# Altium schematic symbol library jlcpcb_capacitors_basic.schlib: 134 symbols (part 3 of 3)
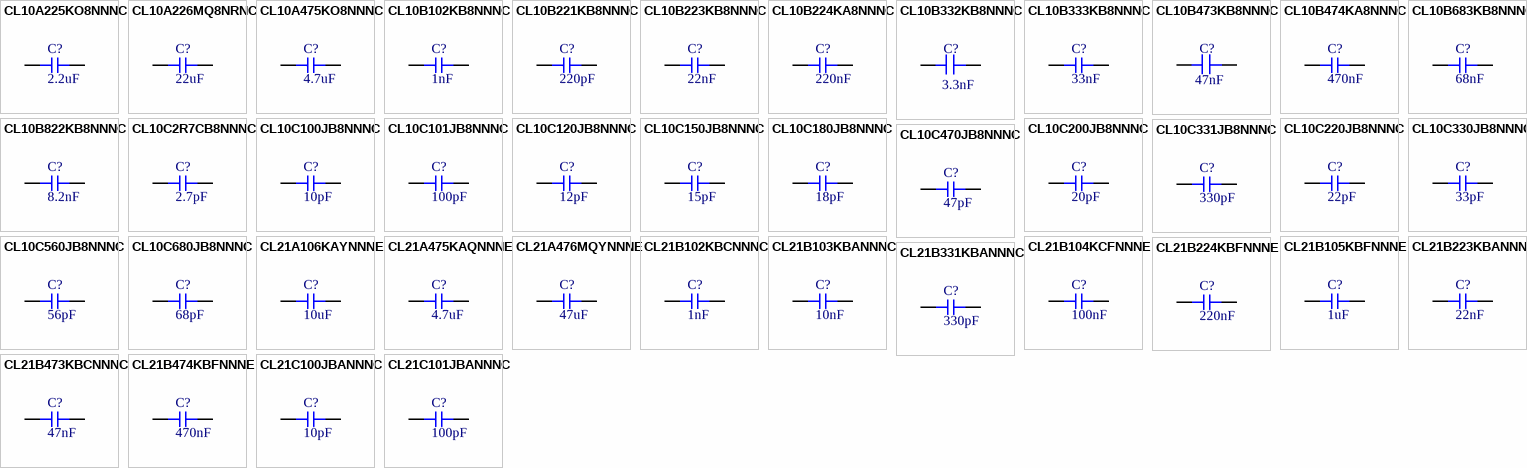
[diagram p5: symbols CL10A225KO8NNNC to CL21C101JBANNNC]

## CL10C180JB8NNNC
designator C?  Capacitance: 18pF  (hidden comment: *)
Capacitor, Ceramic (MLCC), 18pF, ±5%, 50V, C0G, ±5%, SMD 0603; Manufacturer: Samsung Electro-Mechanics; Manufacturer Part Number: CL10C180JB8NNNC; Package Size: 0603; JLCPCB Basic Part: Yes; JLCPCB Part Number: C1647; Supplier 1: LCSC; Category: Capacitors - MLCC; Supplier Part Number 1: C1647; Tolerance: ±5%; Voltage Rating: 50V; Temperature Coefficient: C0G; RoHS: Yes; ComponentLink1Description: Datasheet; ComponentLink1URL: https://datasheet.lcsc.com/lcsc/1810261621_Samsung-Electro-Mechanics-CL10C180JB8NNNC_C1647.pdf; ComponentLink2Description: JLCPCB Part URL; ComponentLink2URL: https://jlcpcb.com/partdetail/C1647; ComponentLink3Description: LCSC Part URL; ComponentLink3URL: https://lcsc.com/product-detail/Multilayer-Ceramic-Capacitors-MLCC---SMD-SMT_Samsung-Electro-Mechanics-Samsung-Electro-Mechanics-CL10C180JB8NNNC_C1647.html
footprint CAP-0603 (0603 (1608M) Capacitor)
pins: 1, 2

## CL10C200JB8NNNC
designator C?  Capacitance: 20pF  (hidden comment: *)
Capacitor, Ceramic (MLCC), 20pF, ±5%, 50V, C0G, ±5%, SMD 0603; Manufacturer: Samsung Electro-Mechanics; Manufacturer Part Number: CL10C200JB8NNNC; Package Size: 0603; JLCPCB Basic Part: Yes; JLCPCB Part Number: C1648; Supplier 1: LCSC; Category: Capacitors - MLCC; Supplier Part Number 1: C1648; Tolerance: ±5%; Voltage Rating: 50V; Temperature Coefficient: C0G; RoHS: Yes; ComponentLink1Description: Datasheet; ComponentLink1URL: https://datasheet.lcsc.com/lcsc/1810261514_Samsung-Electro-Mechanics-CL10C200JB8NNNC_C1648.pdf; ComponentLink2Description: JLCPCB Part URL; ComponentLink2URL: https://jlcpcb.com/partdetail/C1648; ComponentLink3Description: LCSC Part URL; ComponentLink3URL: https://lcsc.com/product-detail/Multilayer-Ceramic-Capacitors-MLCC---SMD-SMT_Samsung-Electro-Mechanics-Samsung-Electro-Mechanics-CL10C200JB8NNNC_C1648.html
footprint CAP-0603 (0603 (1608M) Capacitor)
pins: 1, 2

## CL10C220JB8NNNC
designator C?  Capacitance: 22pF  (hidden comment: *)
Capacitor, Ceramic (MLCC), 22pF, ±5%, 50V, C0G, ±5%, SMD 0603; Manufacturer: Samsung Electro-Mechanics; Manufacturer Part Number: CL10C220JB8NNNC; Package Size: 0603; JLCPCB Basic Part: Yes; JLCPCB Part Number: C1653; Supplier 1: LCSC; Category: Capacitors - MLCC; Supplier Part Number 1: C1653; Tolerance: ±5%; Voltage Rating: 50V; Temperature Coefficient: C0G; RoHS: Yes; ComponentLink1Description: Datasheet; ComponentLink1URL: https://datasheet.lcsc.com/lcsc/1810121815_Samsung-Electro-Mechanics-CL10C220JB8NNNC_C1653.pdf; ComponentLink2Description: JLCPCB Part URL; ComponentLink2URL: https://jlcpcb.com/partdetail/C1653; ComponentLink3Description: LCSC Part URL; ComponentLink3URL: https://lcsc.com/product-detail/Multilayer-Ceramic-Capacitors-MLCC---SMD-SMT_Samsung-Electro-Mechanics-Samsung-Electro-Mechanics-CL10C220JB8NNNC_C1653.html
footprint CAP-0603 (0603 (1608M) Capacitor)
pins: 1, 2

## CL10C330JB8NNNC
designator C?  Capacitance: 33pF  (hidden comment: *)
Capacitor, Ceramic (MLCC), 33pF, ±5%, 50V, C0G, ±5%, SMD 0603; Manufacturer: Samsung Electro-Mechanics; Manufacturer Part Number: CL10C330JB8NNNC; Package Size: 0603; JLCPCB Basic Part: Yes; JLCPCB Part Number: C1663; Supplier 1: LCSC; Category: Capacitors - MLCC; Supplier Part Number 1: C1663; Tolerance: ±5%; Voltage Rating: 50V; Temperature Coefficient: C0G; RoHS: Yes; ComponentLink1Description: Datasheet; ComponentLink1URL: https://datasheet.lcsc.com/lcsc/1811151146_Samsung-Electro-Mechanics-CL10C330JB8NNNC_C1663.pdf; ComponentLink2Description: JLCPCB Part URL; ComponentLink2URL: https://jlcpcb.com/partdetail/C1663; ComponentLink3Description: LCSC Part URL; ComponentLink3URL: https://lcsc.com/product-detail/Multilayer-Ceramic-Capacitors-MLCC---SMD-SMT_Samsung-Electro-Mechanics-Samsung-Electro-Mechanics-CL10C330JB8NNNC_C1663.html
footprint C0603 (Chip Resistor, 2-Leads, Body 1.65x0.95mm, IPC Low Density)
pins: 1, 2

## CL10C331JB8NNNC
designator C?  Capacitance: 330pF  (hidden comment: *)
Capacitor, Ceramic (MLCC), 330pF, ±5%, 50V, C0G, ±5%, SMD 0603; Manufacturer: Samsung Electro-Mechanics; Manufacturer Part Number: CL10C331JB8NNNC; Package Size: 0603; JLCPCB Basic Part: Yes; JLCPCB Part Number: C1664; Supplier 1: LCSC; Category: Capacitors - MLCC; Supplier Part Number 1: C1664; Tolerance: ±5%; Voltage Rating: 50V; Temperature Coefficient: C0G; RoHS: Yes; ComponentLink1Description: Datasheet; ComponentLink1URL: https://datasheet.lcsc.com/lcsc/1810261512_Samsung-Electro-Mechanics-CL10C331JB8NNNC_C1664.pdf; ComponentLink2Description: JLCPCB Part URL; ComponentLink2URL: https://jlcpcb.com/partdetail/C1664; ComponentLink3Description: LCSC Part URL; ComponentLink3URL: https://lcsc.com/product-detail/Multilayer-Ceramic-Capacitors-MLCC---SMD-SMT_Samsung-Electro-Mechanics-Samsung-Electro-Mechanics-CL10C331JB8NNNC_C1664.html
footprint CAP-0603 (0603 (1608M) Capacitor)
pins: 1, 2

## CL10C470JB8NNNC
designator C?  Capacitance: 47pF  (hidden comment: *)
Capacitor, Ceramic (MLCC), 47pF, ±5%, 50V, C0G, ±5%, SMD 0603; Manufacturer: Samsung Electro-Mechanics; Manufacturer Part Number: CL10C470JB8NNNC; Package Size: 0603; JLCPCB Basic Part: Yes; JLCPCB Part Number: C1671; Supplier 1: LCSC; Category: Capacitors - MLCC; Supplier Part Number 1: C1671; Tolerance: ±5%; Voltage Rating: 50V; Temperature Coefficient: C0G; RoHS: Yes; ComponentLink1Description: Datasheet; ComponentLink1URL: https://datasheet.lcsc.com/lcsc/1810261610_Samsung-Electro-Mechanics-CL10C470JB8NNNC_C1671.pdf; ComponentLink2Description: JLCPCB Part URL; ComponentLink2URL: https://jlcpcb.com/partdetail/C1671; ComponentLink3Description: LCSC Part URL; ComponentLink3URL: https://lcsc.com/product-detail/Multilayer-Ceramic-Capacitors-MLCC---SMD-SMT_Samsung-Electro-Mechanics-Samsung-Electro-Mechanics-CL10C470JB8NNNC_C1671.html
footprint CAP-0603 (0603 (1608M) Capacitor)
pins: 1, 2

## CL10C560JB8NNNC
designator C?  Capacitance: 56pF  (hidden comment: *)
Capacitor, Ceramic (MLCC), 56pF, ±5%, 50V, C0G, ±5%, SMD 0603; Manufacturer: Samsung Electro-Mechanics; Manufacturer Part Number: CL10C560JB8NNNC; Package Size: 0603; JLCPCB Basic Part: Yes; JLCPCB Part Number: C39148; Supplier 1: LCSC; Category: Capacitors - MLCC; Supplier Part Number 1: C39148; Tolerance: ±5%; Voltage Rating: 50V; Temperature Coefficient: C0G; RoHS: Yes; ComponentLink1Description: Datasheet; ComponentLink1URL: https://datasheet.lcsc.com/lcsc/1810261515_Samsung-Electro-Mechanics-CL10C560JB8NNNC_C39148.pdf; ComponentLink2Description: JLCPCB Part URL; ComponentLink2URL: https://jlcpcb.com/partdetail/C39148; ComponentLink3Description: LCSC Part URL; ComponentLink3URL: https://lcsc.com/product-detail/Multilayer-Ceramic-Capacitors-MLCC---SMD-SMT_Samsung-Electro-Mechanics-Samsung-Electro-Mechanics-CL10C560JB8NNNC_C39148.html
footprint CAP-0603 (0603 (1608M) Capacitor)
pins: 1, 2

## CL10C680JB8NNNC
designator C?  Capacitance: 68pF  (hidden comment: *)
Capacitor, Ceramic (MLCC), 68pF, ±5%, 50V, C0G, ±5%, SMD 0603; Manufacturer: Samsung Electro-Mechanics; Manufacturer Part Number: CL10C680JB8NNNC; Package Size: 0603; JLCPCB Basic Part: Yes; JLCPCB Part Number: C28262; Supplier 1: LCSC; Category: Capacitors - MLCC; Supplier Part Number 1: C28262; Tolerance: ±5%; Voltage Rating: 50V; Temperature Coefficient: C0G; RoHS: Yes; ComponentLink1Description: Datasheet; ComponentLink1URL: https://datasheet.lcsc.com/lcsc/1810261521_Samsung-Electro-Mechanics-CL10C680JB8NNNC_C28262.pdf; ComponentLink2Description: JLCPCB Part URL; ComponentLink2URL: https://jlcpcb.com/partdetail/C28262; ComponentLink3Description: LCSC Part URL; ComponentLink3URL: https://lcsc.com/product-detail/Multilayer-Ceramic-Capacitors-MLCC---SMD-SMT_Samsung-Electro-Mechanics-Samsung-Electro-Mechanics-CL10C680JB8NNNC_C28262.html
footprint CAP-0603 (0603 (1608M) Capacitor)
pins: 1, 2

## CL21A106KAYNNNE
designator C?  Capacitance: 10uF  (hidden comment: *)
Capacitor, Ceramic (MLCC), 10uF, ±10%, 25V, X5R, ±10%, SMD 0805; Manufacturer: Samsung Electro-Mechanics; Manufacturer Part Number: CL21A106KAYNNNE; Package Size: 0805; JLCPCB Basic Part: Yes; JLCPCB Part Number: C15850; Supplier 1: LCSC; Category: Capacitors - MLCC; Supplier Part Number 1: C15850; Tolerance: ±10%; Voltage Rating: 25V; Temperature Coefficient: X5R; RoHS: Yes; ComponentLink1Description: Datasheet; ComponentLink1URL: https://datasheet.lcsc.com/lcsc/1811121310_Samsung-Electro-Mechanics-CL21A106KAYNNNE_C15850.pdf; ComponentLink2Description: JLCPCB Part URL; ComponentLink2URL: https://jlcpcb.com/partdetail/C15850; ComponentLink3Description: LCSC Part URL; ComponentLink3URL: https://lcsc.com/product-detail/Multilayer-Ceramic-Capacitors-MLCC---SMD-SMT_Samsung-Electro-Mechanics-Samsung-Electro-Mechanics-CL21A106KAYNNNE_C15850.html
footprint CAP-0805 (0805 (2012M) Capacitor)
pins: 1, 2

## CL21A475KAQNNNE
designator C?  Capacitance: 4.7uF  (hidden comment: *)
Capacitor, Ceramic (MLCC), 4.7uF, ±10%, 25V, X5R, ±10%, SMD 0805; Manufacturer: Samsung Electro-Mechanics; Manufacturer Part Number: CL21A475KAQNNNE; Package Size: 0805; JLCPCB Basic Part: Yes; JLCPCB Part Number: C1779; Supplier 1: LCSC; Category: Capacitors - MLCC; Supplier Part Number 1: C1779; Tolerance: ±10%; Voltage Rating: 25V; Temperature Coefficient: X5R; RoHS: Yes; ComponentLink1Description: Datasheet; ComponentLink1URL: https://datasheet.lcsc.com/lcsc/1810261822_Samsung-Electro-Mechanics-CL21A475KAQNNNE_C1779.pdf; ComponentLink2Description: JLCPCB Part URL; ComponentLink2URL: https://jlcpcb.com/partdetail/C1779; ComponentLink3Description: LCSC Part URL; ComponentLink3URL: https://lcsc.com/product-detail/Multilayer-Ceramic-Capacitors-MLCC---SMD-SMT_Samsung-Electro-Mechanics-Samsung-Electro-Mechanics-CL21A475KAQNNNE_C1779.html
footprint CAP-0805 (0805 (2012M) Capacitor)
pins: 1, 2

## CL21A476MQYNNNE
designator C?  Capacitance: 47uF  (hidden comment: *)
Capacitor, Ceramic (MLCC), 47uF, ±20%, 6.3V, X5R, ±20%, SMD 0805; Manufacturer: Samsung Electro-Mechanics; Manufacturer Part Number: CL21A476MQYNNNE; Package Size: 0805; JLCPCB Basic Part: Yes; JLCPCB Part Number: C16780; Supplier 1: LCSC; Category: Capacitors - MLCC; Supplier Part Number 1: C16780; Tolerance: ±20%; Voltage Rating: 6.3V; Temperature Coefficient: X5R; RoHS: Yes; ComponentLink1Description: Datasheet; ComponentLink1URL: https://datasheet.lcsc.com/lcsc/1811091612_Samsung-Electro-Mechanics-CL21A476MQYNNNE_C16780.pdf; ComponentLink2Description: JLCPCB Part URL; ComponentLink2URL: https://jlcpcb.com/partdetail/C16780; ComponentLink3Description: LCSC Part URL; ComponentLink3URL: https://lcsc.com/product-detail/Multilayer-Ceramic-Capacitors-MLCC---SMD-SMT_Samsung-Electro-Mechanics-Samsung-Electro-Mechanics-CL21A476MQYNNNE_C16780.html
footprint CAP-0805 (0805 (2012M) Capacitor)
pins: 1, 2

## CL21B102KBCNNNC
designator C?  Capacitance: 1nF  (hidden comment: *)
Capacitor, Ceramic (MLCC), 1nF, ±10%, 50V, X7R, ±10%, SMD 0805; Manufacturer: Samsung Electro-Mechanics; Manufacturer Part Number: CL21B102KBCNNNC; Package Size: 0805; JLCPCB Basic Part: Yes; JLCPCB Part Number: C46653; Supplier 1: LCSC; Category: Capacitors - MLCC; Supplier Part Number 1: C46653; Tolerance: ±10%; Voltage Rating: 50V; Temperature Coefficient: X7R; RoHS: Yes; ComponentLink1Description: Datasheet; ComponentLink1URL: https://datasheet.lcsc.com/lcsc/1808311543_Samsung-Electro-Mechanics-CL21B102KBCNNNC_C46653.pdf; ComponentLink2Description: JLCPCB Part URL; ComponentLink2URL: https://jlcpcb.com/partdetail/C46653; ComponentLink3Description: LCSC Part URL; ComponentLink3URL: https://lcsc.com/product-detail/Multilayer-Ceramic-Capacitors-MLCC---SMD-SMT_Samsung-Electro-Mechanics-Samsung-Electro-Mechanics-CL21B102KBCNNNC_C46653.html
footprint CAP-0805 (0805 (2012M) Capacitor)
pins: 1, 2

## CL21B103KBANNNC
designator C?  Capacitance: 10nF  (hidden comment: *)
Capacitor, Ceramic (MLCC), 10nF, ±10%, 50V, X7R, ±10%, SMD 0805; Manufacturer: Samsung Electro-Mechanics; Manufacturer Part Number: CL21B103KBANNNC; Package Size: 0805; JLCPCB Basic Part: Yes; JLCPCB Part Number: C1710; Supplier 1: LCSC; Category: Capacitors - MLCC; Supplier Part Number 1: C1710; Tolerance: ±10%; Voltage Rating: 50V; Temperature Coefficient: X7R; RoHS: Yes; ComponentLink1Description: Datasheet; ComponentLink1URL: https://datasheet.lcsc.com/lcsc/1811151136_Samsung-Electro-Mechanics-CL21B103KBANNNC_C1710.pdf; ComponentLink2Description: JLCPCB Part URL; ComponentLink2URL: https://jlcpcb.com/partdetail/C1710; ComponentLink3Description: LCSC Part URL; ComponentLink3URL: https://lcsc.com/product-detail/Multilayer-Ceramic-Capacitors-MLCC---SMD-SMT_Samsung-Electro-Mechanics-Samsung-Electro-Mechanics-CL21B103KBANNNC_C1710.html
footprint CAP-0805 (0805 (2012M) Capacitor)
pins: 1, 2

## CL21B104KCFNNNE
designator C?  Capacitance: 100nF  (hidden comment: *)
Capacitor, Ceramic (MLCC), 100nF, ±10%, 100V, X7R, ±10%, SMD 0805; Manufacturer: Samsung Electro-Mechanics; Manufacturer Part Number: CL21B104KCFNNNE; Package Size: 0805; JLCPCB Basic Part: Yes; JLCPCB Part Number: C28233; Supplier 1: LCSC; Category: Capacitors - MLCC; Supplier Part Number 1: C28233; Tolerance: ±10%; Voltage Rating: 100V; Temperature Coefficient: X7R; RoHS: Yes; ComponentLink1Description: Datasheet; ComponentLink1URL: https://datasheet.lcsc.com/lcsc/1810191216_Samsung-Electro-Mechanics-CL21B104KCFNNNE_C28233.pdf; ComponentLink2Description: JLCPCB Part URL; ComponentLink2URL: https://jlcpcb.com/partdetail/C28233; ComponentLink3Description: LCSC Part URL; ComponentLink3URL: https://lcsc.com/product-detail/Multilayer-Ceramic-Capacitors-MLCC---SMD-SMT_Samsung-Electro-Mechanics-Samsung-Electro-Mechanics-CL21B104KCFNNNE_C28233.html
footprint CAP-0805 (0805 (2012M) Capacitor)
pins: 1, 2

## CL21B105KBFNNNE
designator C?  Capacitance: 1uF  (hidden comment: *)
Capacitor, Ceramic (MLCC), 1uF, ±10%, 50V, X7R, ±10%, SMD 0805; Manufacturer: Samsung Electro-Mechanics; Manufacturer Part Number: CL21B105KBFNNNE; Package Size: 0805; JLCPCB Basic Part: Yes; JLCPCB Part Number: C28323; Supplier 1: LCSC; Category: Capacitors - MLCC; Supplier Part Number 1: C28323; Tolerance: ±10%; Voltage Rating: 50V; Temperature Coefficient: X7R; RoHS: Yes; ComponentLink1Description: Datasheet; ComponentLink1URL: https://datasheet.lcsc.com/lcsc/1810191216_Samsung-Electro-Mechanics-CL21B105KBFNNNE_C28323.pdf; ComponentLink2Description: JLCPCB Part URL; ComponentLink2URL: https://jlcpcb.com/partdetail/C28323; ComponentLink3Description: LCSC Part URL; ComponentLink3URL: https://lcsc.com/product-detail/Multilayer-Ceramic-Capacitors-MLCC---SMD-SMT_Samsung-Electro-Mechanics-Samsung-Electro-Mechanics-CL21B105KBFNNNE_C28323.html
footprint CAP-0805 (0805 (2012M) Capacitor)
pins: 1, 2

## CL21B223KBANNNC
designator C?  Capacitance: 22nF  (hidden comment: *)
Capacitor, Ceramic (MLCC), 22nF, ±10%, 50V, X7R, ±10%, SMD 0805; Manufacturer: Samsung Electro-Mechanics; Manufacturer Part Number: CL21B223KBANNNC; Package Size: 0805; JLCPCB Basic Part: Yes; JLCPCB Part Number: C1729; Supplier 1: LCSC; Category: Capacitors - MLCC; Supplier Part Number 1: C1729; Tolerance: ±10%; Voltage Rating: 50V; Temperature Coefficient: X7R; RoHS: Yes; ComponentLink1Description: Datasheet; ComponentLink1URL: https://datasheet.lcsc.com/lcsc/1810191222_Samsung-Electro-Mechanics-CL21B223KBANNNC_C1729.pdf; ComponentLink2Description: JLCPCB Part URL; ComponentLink2URL: https://jlcpcb.com/partdetail/C1729; ComponentLink3Description: LCSC Part URL; ComponentLink3URL: https://lcsc.com/product-detail/Multilayer-Ceramic-Capacitors-MLCC---SMD-SMT_Samsung-Electro-Mechanics-Samsung-Electro-Mechanics-CL21B223KBANNNC_C1729.html
footprint CAP-0805 (0805 (2012M) Capacitor)
pins: 1, 2

## CL21B224KBFNNNE
designator C?  Capacitance: 220nF  (hidden comment: *)
Capacitor, Ceramic (MLCC), 220nF, ±10%, 50V, X7R, ±10%, SMD 0805; Manufacturer: Samsung Electro-Mechanics; Manufacturer Part Number: CL21B224KBFNNNE; Package Size: 0805; JLCPCB Basic Part: Yes; JLCPCB Part Number: C5378; Supplier 1: LCSC; Category: Capacitors - MLCC; Supplier Part Number 1: C5378; Tolerance: ±10%; Voltage Rating: 50V; Temperature Coefficient: X7R; RoHS: Yes; ComponentLink1Description: Datasheet; ComponentLink1URL: https://datasheet.lcsc.com/lcsc/1810191222_Samsung-Electro-Mechanics-CL21B224KBFNNNE_C5378.pdf; ComponentLink2Description: JLCPCB Part URL; ComponentLink2URL: https://jlcpcb.com/partdetail/C5378; ComponentLink3Description: LCSC Part URL; ComponentLink3URL: https://lcsc.com/product-detail/Multilayer-Ceramic-Capacitors-MLCC---SMD-SMT_Samsung-Electro-Mechanics-Samsung-Electro-Mechanics-CL21B224KBFNNNE_C5378.html
footprint CAP-0805 (0805 (2012M) Capacitor)
pins: 1, 2

## CL21B331KBANNNC
designator C?  Capacitance: 330pF  (hidden comment: *)
Capacitor, Ceramic (MLCC), 330pF, ±10%, 50V, X7R, ±10%, SMD 0805; Manufacturer: Samsung Electro-Mechanics; Manufacturer Part Number: CL21B331KBANNNC; Package Size: 0805; JLCPCB Basic Part: Yes; JLCPCB Part Number: C51207; Supplier 1: LCSC; Category: Capacitors - MLCC; Supplier Part Number 1: C51207; Tolerance: ±10%; Voltage Rating: 50V; Temperature Coefficient: X7R; RoHS: Yes; ComponentLink1Description: Datasheet; ComponentLink1URL: https://datasheet.lcsc.com/lcsc/1810191220_Samsung-Electro-Mechanics-CL21B331KBANNNC_C51207.pdf; ComponentLink2Description: JLCPCB Part URL; ComponentLink2URL: https://jlcpcb.com/partdetail/C51207; ComponentLink3Description: LCSC Part URL; ComponentLink3URL: https://lcsc.com/product-detail/Multilayer-Ceramic-Capacitors-MLCC---SMD-SMT_Samsung-Electro-Mechanics-Samsung-Electro-Mechanics-CL21B331KBANNNC_C51207.html
footprint CAP-0805 (0805 (2012M) Capacitor)
pins: 1, 2

## CL21B473KBCNNNC
designator C?  Capacitance: 47nF  (hidden comment: *)
Capacitor, Ceramic (MLCC), 47nF, ±10%, 50V, X7R, ±10%, SMD 0805; Manufacturer: Samsung Electro-Mechanics; Manufacturer Part Number: CL21B473KBCNNNC; Package Size: 0805; JLCPCB Basic Part: Yes; JLCPCB Part Number: C53134; Supplier 1: LCSC; Category: Capacitors - MLCC; Supplier Part Number 1: C53134; Tolerance: ±10%; Voltage Rating: 50V; Temperature Coefficient: X7R; RoHS: Yes; ComponentLink1Description: Datasheet; ComponentLink1URL: https://datasheet.lcsc.com/lcsc/1811091614_Samsung-Electro-Mechanics-CL21B473KBCNNNC_C53134.pdf; ComponentLink2Description: JLCPCB Part URL; ComponentLink2URL: https://jlcpcb.com/partdetail/C53134; ComponentLink3Description: LCSC Part URL; ComponentLink3URL: https://lcsc.com/product-detail/Multilayer-Ceramic-Capacitors-MLCC---SMD-SMT_Samsung-Electro-Mechanics-Samsung-Electro-Mechanics-CL21B473KBCNNNC_C53134.html
footprint CAP-0805 (0805 (2012M) Capacitor)
pins: 1, 2

## CL21B474KBFNNNE
designator C?  Capacitance: 470nF  (hidden comment: *)
Capacitor, Ceramic (MLCC), 470nF, ±10%, 50V, X7R, ±10%, SMD 0805; Manufacturer: Samsung Electro-Mechanics; Manufacturer Part Number: CL21B474KBFNNNE; Package Size: 0805; JLCPCB Basic Part: Yes; JLCPCB Part Number: C13967; Supplier 1: LCSC; Category: Capacitors - MLCC; Supplier Part Number 1: C13967; Tolerance: ±10%; Voltage Rating: 50V; Temperature Coefficient: X7R; RoHS: Yes; ComponentLink1Description: Datasheet; ComponentLink1URL: https://datasheet.lcsc.com/lcsc/1810251812_Samsung-Electro-Mechanics-CL21B474KBFNNNE_C13967.pdf; ComponentLink2Description: JLCPCB Part URL; ComponentLink2URL: https://jlcpcb.com/partdetail/C13967; ComponentLink3Description: LCSC Part URL; ComponentLink3URL: https://lcsc.com/product-detail/Multilayer-Ceramic-Capacitors-MLCC---SMD-SMT_Samsung-Electro-Mechanics-Samsung-Electro-Mechanics-CL21B474KBFNNNE_C13967.html
footprint CAP-0805 (0805 (2012M) Capacitor)
pins: 1, 2

## CL21C100JBANNNC
designator C?  Capacitance: 10pF  (hidden comment: *)
Capacitor, Ceramic (MLCC), 10pF, ±5%, 50V, C0G, ±5%, SMD 0805; Manufacturer: Samsung Electro-Mechanics; Manufacturer Part Number: CL21C100JBANNNC; Package Size: 0805; JLCPCB Basic Part: Yes; JLCPCB Part Number: C1785; Supplier 1: LCSC; Category: Capacitors - MLCC; Supplier Part Number 1: C1785; Tolerance: ±5%; Voltage Rating: 50V; Temperature Coefficient: C0G; RoHS: Yes; ComponentLink1Description: Datasheet; ComponentLink1URL: https://datasheet.lcsc.com/lcsc/1810191223_Samsung-Electro-Mechanics-CL21C100JBANNNC_C1785.pdf; ComponentLink2Description: JLCPCB Part URL; ComponentLink2URL: https://jlcpcb.com/partdetail/C1785; ComponentLink3Description: LCSC Part URL; ComponentLink3URL: https://lcsc.com/product-detail/Multilayer-Ceramic-Capacitors-MLCC---SMD-SMT_Samsung-Electro-Mechanics-Samsung-Electro-Mechanics-CL21C100JBANNNC_C1785.html
footprint CAP-0805 (0805 (2012M) Capacitor)
pins: 1, 2

## CL21C101JBANNNC
designator C?  Capacitance: 100pF  (hidden comment: *)
Capacitor, Ceramic (MLCC), 100pF, ±5%, 50V, C0G, ±5%, SMD 0805; Manufacturer: Samsung Electro-Mechanics; Manufacturer Part Number: CL21C101JBANNNC; Package Size: 0805; JLCPCB Basic Part: Yes; JLCPCB Part Number: C1790; Supplier 1: LCSC; Category: Capacitors - MLCC; Supplier Part Number 1: C1790; Tolerance: ±5%; Voltage Rating: 50V; Temperature Coefficient: C0G; RoHS: Yes; ComponentLink1Description: Datasheet; ComponentLink1URL: https://datasheet.lcsc.com/lcsc/1810241824_Samsung-Electro-Mechanics-CL21C101JBANNNC_C1790.pdf; ComponentLink2Description: JLCPCB Part URL; ComponentLink2URL: https://jlcpcb.com/partdetail/C1790; ComponentLink3Description: LCSC Part URL; ComponentLink3URL: https://lcsc.com/product-detail/Multilayer-Ceramic-Capacitors-MLCC---SMD-SMT_Samsung-Electro-Mechanics-Samsung-Electro-Mechanics-CL21C101JBANNNC_C1790.html
footprint CAP-0805 (0805 (2012M) Capacitor)
pins: 1, 2

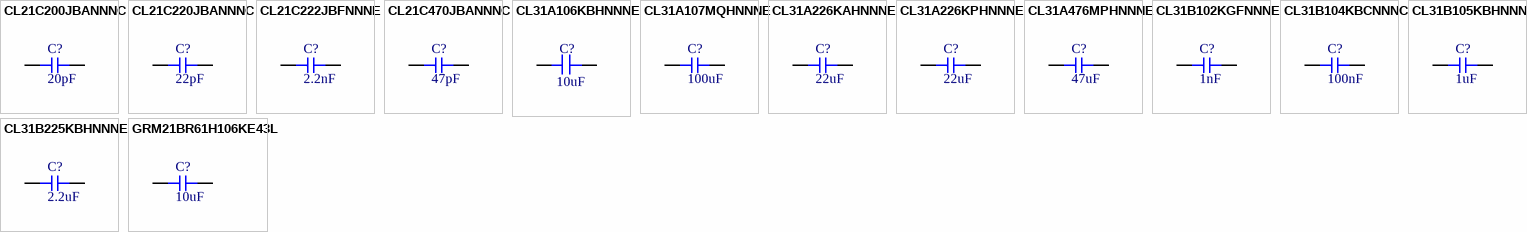
[diagram p3: symbols CL21C200JBANNNC to GRM21BR61H106KE43L]

## CL21C200JBANNNC
designator C?  Capacitance: 20pF  (hidden comment: *)
Capacitor, Ceramic (MLCC), 20pF, ±5%, 50V, C0G, ±5%, SMD 0805; Manufacturer: Samsung Electro-Mechanics; Manufacturer Part Number: CL21C200JBANNNC; Package Size: 0805; JLCPCB Basic Part: Yes; JLCPCB Part Number: C1798; Supplier 1: LCSC; Category: Capacitors - MLCC; Supplier Part Number 1: C1798; Tolerance: ±5%; Voltage Rating: 50V; Temperature Coefficient: C0G; RoHS: Yes; ComponentLink1Description: Datasheet; ComponentLink1URL: https://datasheet.lcsc.com/lcsc/1810191220_Samsung-Electro-Mechanics-CL21C200JBANNNC_C1798.pdf; ComponentLink2Description: JLCPCB Part URL; ComponentLink2URL: https://jlcpcb.com/partdetail/C1798; ComponentLink3Description: LCSC Part URL; ComponentLink3URL: https://lcsc.com/product-detail/Multilayer-Ceramic-Capacitors-MLCC---SMD-SMT_Samsung-Electro-Mechanics-Samsung-Electro-Mechanics-CL21C200JBANNNC_C1798.html
footprint CAP-0805 (0805 (2012M) Capacitor)
pins: 1, 2

## CL21C220JBANNNC
designator C?  Capacitance: 22pF  (hidden comment: *)
Capacitor, Ceramic (MLCC), 22pF, ±5%, 50V, C0G, ±5%, SMD 0805; Manufacturer: Samsung Electro-Mechanics; Manufacturer Part Number: CL21C220JBANNNC; Package Size: 0805; JLCPCB Basic Part: Yes; JLCPCB Part Number: C1804; Supplier 1: LCSC; Category: Capacitors - MLCC; Supplier Part Number 1: C1804; Tolerance: ±5%; Voltage Rating: 50V; Temperature Coefficient: C0G; RoHS: Yes; ComponentLink1Description: Datasheet; ComponentLink1URL: https://datasheet.lcsc.com/lcsc/1810271113_Samsung-Electro-Mechanics-CL21C220JBANNNC_C1804.pdf; ComponentLink2Description: JLCPCB Part URL; ComponentLink2URL: https://jlcpcb.com/partdetail/C1804; ComponentLink3Description: LCSC Part URL; ComponentLink3URL: https://lcsc.com/product-detail/Multilayer-Ceramic-Capacitors-MLCC---SMD-SMT_Samsung-Electro-Mechanics-Samsung-Electro-Mechanics-CL21C220JBANNNC_C1804.html
footprint CAP-0805 (0805 (2012M) Capacitor)
pins: 1, 2

## CL21C222JBFNNNE
designator C?  Capacitance: 2.2nF  (hidden comment: *)
Capacitor, Ceramic (MLCC), 2.2nF, ±5%, 50V, C0G, ±5%, SMD 0805; Manufacturer: Samsung Electro-Mechanics; Manufacturer Part Number: CL21C222JBFNNNE; Package Size: 0805; JLCPCB Basic Part: Yes; JLCPCB Part Number: C28260; Supplier 1: LCSC; Category: Capacitors - MLCC; Supplier Part Number 1: C28260; Tolerance: ±5%; Voltage Rating: 50V; Temperature Coefficient: C0G; RoHS: Yes; ComponentLink1Description: Datasheet; ComponentLink1URL: https://datasheet.lcsc.com/lcsc/1810191215_Samsung-Electro-Mechanics-CL21C222JBFNNNE_C28260.pdf; ComponentLink2Description: JLCPCB Part URL; ComponentLink2URL: https://jlcpcb.com/partdetail/C28260; ComponentLink3Description: LCSC Part URL; ComponentLink3URL: https://lcsc.com/product-detail/Multilayer-Ceramic-Capacitors-MLCC---SMD-SMT_Samsung-Electro-Mechanics-Samsung-Electro-Mechanics-CL21C222JBFNNNE_C28260.html
footprint CAP-0805 (0805 (2012M) Capacitor)
pins: 1, 2

## CL21C470JBANNNC
designator C?  Capacitance: 47pF  (hidden comment: *)
Capacitor, Ceramic (MLCC), 47pF, ±5%, 50V, C0G, ±5%, SMD 0805; Manufacturer: Samsung Electro-Mechanics; Manufacturer Part Number: CL21C470JBANNNC; Package Size: 0805; JLCPCB Basic Part: Yes; JLCPCB Part Number: C14857; Supplier 1: LCSC; Category: Capacitors - MLCC; Supplier Part Number 1: C14857; Tolerance: ±5%; Voltage Rating: 50V; Temperature Coefficient: C0G; RoHS: Yes; ComponentLink1Description: Datasheet; ComponentLink1URL: https://datasheet.lcsc.com/lcsc/1810191215_Samsung-Electro-Mechanics-CL21C470JBANNNC_C14857.pdf; ComponentLink2Description: JLCPCB Part URL; ComponentLink2URL: https://jlcpcb.com/partdetail/C14857; ComponentLink3Description: LCSC Part URL; ComponentLink3URL: https://lcsc.com/product-detail/Multilayer-Ceramic-Capacitors-MLCC---SMD-SMT_Samsung-Electro-Mechanics-Samsung-Electro-Mechanics-CL21C470JBANNNC_C14857.html
footprint CAP-0805 (0805 (2012M) Capacitor)
pins: 1, 2

## CL31A106KBHNNNE
designator C?  Capacitance: 10uF  (hidden comment: *)
Capacitor, Ceramic (MLCC), 10uF, ±10%, 50V, X5R, ±10%, SMD 1206; Manufacturer: Samsung Electro-Mechanics; Manufacturer Part Number: CL31A106KBHNNNE; Package Size: 1206; JLCPCB Basic Part: Yes; JLCPCB Part Number: C13585; Supplier 1: LCSC; Category: Capacitors - MLCC; Supplier Part Number 1: C13585; Tolerance: ±10%; Voltage Rating: 50V; Temperature Coefficient: X5R; RoHS: Yes; ComponentLink1Description: Datasheet; ComponentLink1URL: https://datasheet.lcsc.com/lcsc/1810221112_Samsung-Electro-Mechanics-CL31A106KBHNNNE_C13585.pdf; ComponentLink2Description: JLCPCB Part URL; ComponentLink2URL: https://jlcpcb.com/partdetail/C13585; ComponentLink3Description: LCSC Part URL; ComponentLink3URL: https://lcsc.com/product-detail/Multilayer-Ceramic-Capacitors-MLCC---SMD-SMT_Samsung-Electro-Mechanics-Samsung-Electro-Mechanics-CL31A106KBHNNNE_C13585.html
footprint C1206
pins: 1, 2

## CL31A107MQHNNNE
designator C?  Capacitance: 100uF  (hidden comment: *)
Capacitor, Ceramic (MLCC), 100uF, ±20%, 6.3V, X5R, ±20%, SMD 1206; Manufacturer: Samsung Electro-Mechanics; Manufacturer Part Number: CL31A107MQHNNNE; Package Size: 1206; JLCPCB Basic Part: Yes; JLCPCB Part Number: C15008; Supplier 1: LCSC; Category: Capacitors - MLCC; Supplier Part Number 1: C15008; Tolerance: ±20%; Voltage Rating: 6.3V; Temperature Coefficient: X5R; RoHS: Yes; ComponentLink1Description: Datasheet; ComponentLink1URL: https://datasheet.lcsc.com/lcsc/1810301816_Samsung-Electro-Mechanics-CL31A107MQHNNNE_C15008.pdf; ComponentLink2Description: JLCPCB Part URL; ComponentLink2URL: https://jlcpcb.com/partdetail/C15008; ComponentLink3Description: LCSC Part URL; ComponentLink3URL: https://lcsc.com/product-detail/Multilayer-Ceramic-Capacitors-MLCC---SMD-SMT_Samsung-Electro-Mechanics-Samsung-Electro-Mechanics-CL31A107MQHNNNE_C15008.html
footprint CAP-1206 (1206 (3216M) Capacitor)
pins: 1, 2

## CL31A226KAHNNNE
designator C?  Capacitance: 22uF  (hidden comment: *)
Capacitor, Ceramic (MLCC), 22uF, ±10%, 25V, X5R, ±10%, SMD 1206; Manufacturer: Samsung Electro-Mechanics; Manufacturer Part Number: CL31A226KAHNNNE; Package Size: 1206; JLCPCB Basic Part: Yes; JLCPCB Part Number: C12891; Supplier 1: LCSC; Category: Capacitors - MLCC; Supplier Part Number 1: C12891; Tolerance: ±10%; Voltage Rating: 25V; Temperature Coefficient: X5R; RoHS: Yes; ComponentLink1Description: Datasheet; ComponentLink1URL: https://datasheet.lcsc.com/lcsc/1811031514_Samsung-Electro-Mechanics-CL31A226KAHNNNE_C12891.pdf; ComponentLink2Description: JLCPCB Part URL; ComponentLink2URL: https://jlcpcb.com/partdetail/C12891; ComponentLink3Description: LCSC Part URL; ComponentLink3URL: https://lcsc.com/product-detail/Multilayer-Ceramic-Capacitors-MLCC---SMD-SMT_Samsung-Electro-Mechanics-Samsung-Electro-Mechanics-CL31A226KAHNNNE_C12891.html
footprint C1206
pins: 1, 2

## CL31A226KPHNNNE
designator C?  Capacitance: 22uF  (hidden comment: *)
Capacitor, Ceramic (MLCC), 22uF, ±10%, 10V, X5R, ±10%, SMD 1206; Manufacturer: Samsung Electro-Mechanics; Manufacturer Part Number: CL31A226KPHNNNE; Package Size: 1206; JLCPCB Basic Part: Yes; JLCPCB Part Number: C5672; Supplier 1: LCSC; Category: Capacitors - MLCC; Supplier Part Number 1: C5672; Tolerance: ±10%; Voltage Rating: 10V; Temperature Coefficient: X5R; RoHS: Yes; ComponentLink1Description: Datasheet; ComponentLink1URL: https://datasheet.lcsc.com/lcsc/1810221121_Samsung-Electro-Mechanics-CL31A226KPHNNNE_C5672.pdf; ComponentLink2Description: JLCPCB Part URL; ComponentLink2URL: https://jlcpcb.com/partdetail/C5672; ComponentLink3Description: LCSC Part URL; ComponentLink3URL: https://lcsc.com/product-detail/Multilayer-Ceramic-Capacitors-MLCC---SMD-SMT_Samsung-Electro-Mechanics-Samsung-Electro-Mechanics-CL31A226KPHNNNE_C5672.html
footprint CAP-1206 (1206 (3216M) Capacitor)
pins: 1, 2

## CL31A476MPHNNNE
designator C?  Capacitance: 47uF  (hidden comment: *)
Capacitor, Ceramic (MLCC), 47uF, ±20%, 10V, X5R, ±20%, SMD 1206; Manufacturer: Samsung Electro-Mechanics; Manufacturer Part Number: CL31A476MPHNNNE; Package Size: 1206; JLCPCB Basic Part: Yes; JLCPCB Part Number: C96123; Supplier 1: LCSC; Category: Capacitors - MLCC; Supplier Part Number 1: C96123; Tolerance: ±20%; Voltage Rating: 10V; Temperature Coefficient: X5R; RoHS: Yes; ComponentLink1Description: Datasheet; ComponentLink1URL: https://datasheet.lcsc.com/lcsc/1810221121_Samsung-Electro-Mechanics-CL31A476MPHNNNE_C96123.pdf; ComponentLink2Description: JLCPCB Part URL; ComponentLink2URL: https://jlcpcb.com/partdetail/C96123; ComponentLink3Description: LCSC Part URL; ComponentLink3URL: https://lcsc.com/product-detail/Multilayer-Ceramic-Capacitors-MLCC---SMD-SMT_Samsung-Electro-Mechanics-Samsung-Electro-Mechanics-CL31A476MPHNNNE_C96123.html
footprint CAP-1206 (1206 (3216M) Capacitor)
pins: 1, 2

## CL31B102KGFNNNE
designator C?  Capacitance: 1nF  (hidden comment: *)
Capacitor, Ceramic (MLCC), 1nF, ±10%, 500V, X7R, ±10%, SMD 1206; Manufacturer: Samsung Electro-Mechanics; Manufacturer Part Number: CL31B102KGFNNNE; Package Size: 1206; JLCPCB Basic Part: Yes; JLCPCB Part Number: C35216; Supplier 1: LCSC; Category: Capacitors - MLCC; Supplier Part Number 1: C35216; Tolerance: ±10%; Voltage Rating: 500V; Temperature Coefficient: X7R; RoHS: Yes; ComponentLink1Description: Datasheet; ComponentLink1URL: https://datasheet.lcsc.com/lcsc/1810221111_Samsung-Electro-Mechanics-CL31B102KGFNNNE_C35216.pdf; ComponentLink2Description: JLCPCB Part URL; ComponentLink2URL: https://jlcpcb.com/partdetail/C35216; ComponentLink3Description: LCSC Part URL; ComponentLink3URL: https://lcsc.com/product-detail/Multilayer-Ceramic-Capacitors-MLCC---SMD-SMT_Samsung-Electro-Mechanics-Samsung-Electro-Mechanics-CL31B102KGFNNNE_C35216.html
footprint CAP-1206 (1206 (3216M) Capacitor)
pins: 1, 2

## CL31B104KBCNNNC
designator C?  Capacitance: 100nF  (hidden comment: *)
Capacitor, Ceramic (MLCC), 100nF, ±10%, 50V, X7R, ±10%, SMD 1206; Manufacturer: Samsung Electro-Mechanics; Manufacturer Part Number: CL31B104KBCNNNC; Package Size: 1206; JLCPCB Basic Part: Yes; JLCPCB Part Number: C24497; Supplier 1: LCSC; Category: Capacitors - MLCC; Supplier Part Number 1: C24497; Tolerance: ±10%; Voltage Rating: 50V; Temperature Coefficient: X7R; RoHS: Yes; ComponentLink1Description: Datasheet; ComponentLink1URL: https://datasheet.lcsc.com/lcsc/1810221109_Samsung-Electro-Mechanics-CL31B104KBCNNNC_C24497.pdf; ComponentLink2Description: JLCPCB Part URL; ComponentLink2URL: https://jlcpcb.com/partdetail/C24497; ComponentLink3Description: LCSC Part URL; ComponentLink3URL: https://lcsc.com/product-detail/Multilayer-Ceramic-Capacitors-MLCC---SMD-SMT_Samsung-Electro-Mechanics-Samsung-Electro-Mechanics-CL31B104KBCNNNC_C24497.html
footprint C1206
pins: 1, 2

## CL31B105KBHNNNE
designator C?  Capacitance: 1uF  (hidden comment: *)
Capacitor, Ceramic (MLCC), 1uF, ±10%, 50V, X7R, ±10%, SMD 1206; Manufacturer: Samsung Electro-Mechanics; Manufacturer Part Number: CL31B105KBHNNNE; Package Size: 1206; JLCPCB Basic Part: Yes; JLCPCB Part Number: C1848; Supplier 1: LCSC; Category: Capacitors - MLCC; Supplier Part Number 1: C1848; Tolerance: ±10%; Voltage Rating: 50V; Temperature Coefficient: X7R; RoHS: Yes; ComponentLink1Description: Datasheet; ComponentLink1URL: https://datasheet.lcsc.com/lcsc/1810271109_Samsung-Electro-Mechanics-CL31B105KBHNNNE_C1848.pdf; ComponentLink2Description: JLCPCB Part URL; ComponentLink2URL: https://jlcpcb.com/partdetail/C1848; ComponentLink3Description: LCSC Part URL; ComponentLink3URL: https://lcsc.com/product-detail/Multilayer-Ceramic-Capacitors-MLCC---SMD-SMT_Samsung-Electro-Mechanics-Samsung-Electro-Mechanics-CL31B105KBHNNNE_C1848.html
footprint CAP-1206 (1206 (3216M) Capacitor)
pins: 1, 2

## CL31B225KBHNNNE
designator C?  Capacitance: 2.2uF  (hidden comment: *)
Capacitor, Ceramic (MLCC), 2.2uF, ±10%, 50V, X7R, ±10%, SMD 1206; Manufacturer: Samsung Electro-Mechanics; Manufacturer Part Number: CL31B225KBHNNNE; Package Size: 1206; JLCPCB Basic Part: Yes; JLCPCB Part Number: C50254; Supplier 1: LCSC; Category: Capacitors - MLCC; Supplier Part Number 1: C50254; Tolerance: ±10%; Voltage Rating: 50V; Temperature Coefficient: X7R; RoHS: Yes; ComponentLink1Description: Datasheet; ComponentLink1URL: https://datasheet.lcsc.com/lcsc/1811072012_Samsung-Electro-Mechanics-CL31B225KBHNNNE_C50254.pdf; ComponentLink2Description: JLCPCB Part URL; ComponentLink2URL: https://jlcpcb.com/partdetail/C50254; ComponentLink3Description: LCSC Part URL; ComponentLink3URL: https://lcsc.com/product-detail/Multilayer-Ceramic-Capacitors-MLCC---SMD-SMT_Samsung-Electro-Mechanics-Samsung-Electro-Mechanics-CL31B225KBHNNNE_C50254.html
footprint CAP-1206 (1206 (3216M) Capacitor)
pins: 1, 2

## GRM21BR61H106KE43L
designator C?  Capacitance: 10uF  (hidden comment: *)
Capacitor, Ceramic (MLCC), 10uF, ±10%, 50V, X5R, ±10%, SMD 0805; Manufacturer: Murata Electronics; Manufacturer Part Number: GRM21BR61H106KE43L; Package Size: 0805; JLCPCB Basic Part: Yes; JLCPCB Part Number: C440198; Supplier 1: LCSC; Category: Capacitors - MLCC; Supplier Part Number 1: C440198; Tolerance: ±10%; Voltage Rating: 50V; Temperature Coefficient: X5R; RoHS: Yes; ComponentLink1Description: Datasheet; ComponentLink1URL: https://datasheet.lcsc.com/lcsc/2004251506_Murata-Electronics-GRM21BR61H106KE43L_C440198.pdf; ComponentLink2Description: JLCPCB Part URL; ComponentLink2URL: https://jlcpcb.com/partdetail/C440198; ComponentLink3Description: LCSC Part URL; ComponentLink3URL: https://lcsc.com/product-detail/Multilayer-Ceramic-Capacitors-MLCC---SMD-SMT_Murata-Electronics-Murata-Electronics-GRM21BR61H106KE43L_C440198.html
footprint C0805
pins: 1, 2